# EAGLE library part EHF-125-01-F-D (library SAMTEC_EHF_By_element14_Batch_1)
CONN HEADER, 1.27MM, THRU HOLE, 50WAY
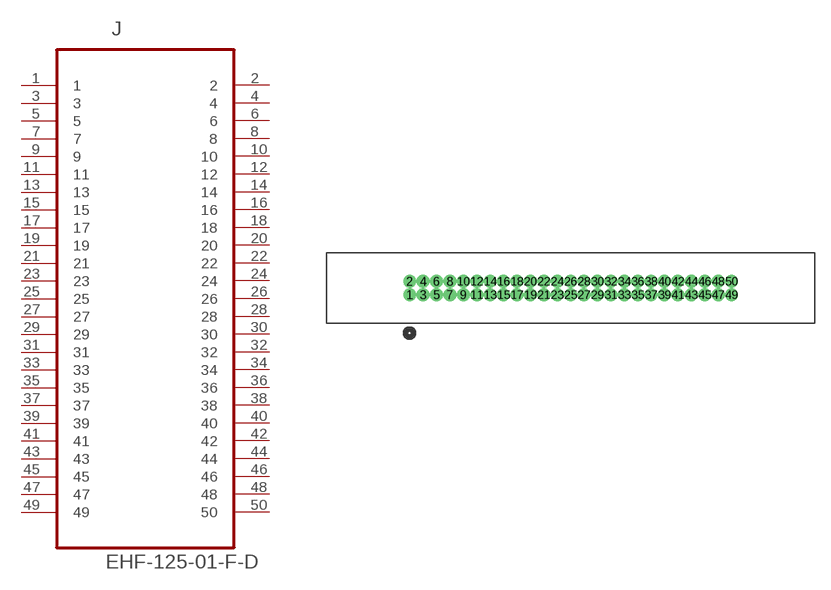
[diagram p10: symbol with the pads of SAMTEC_EHF-125-01-F-D; footprint SAMTEC_EHF-125-01-F-D]

Designator prefix J

## EHF-125-01-F-D (MPN: EHF-125-01-F-D; OC_FARNELL: 1802030; OC_NEWARK: 91P5656; PACKAGE: HEADER, 1.27MM, THRU HOLE, 50WAY; SUPPLIER: SAMTEC)  [SAMTEC_EHF-125-01-F-D]
1  1  pas
2  2  pas
3  3  pas
4  4  pas
5  5  pas
6  6  pas
7  7  pas
8  8  pas
9  9  pas
10  10  pas
11  11  pas
12  12  pas
13  13  pas
14  14  pas
15  15  pas
16  16  pas
17  17  pas
18  18  pas
19  19  pas
20  20  pas
21  21  pas
22  22  pas
23  23  pas
24  24  pas
25  25  pas
26  26  pas
27  27  pas
28  28  pas
29  29  pas
30  30  pas
31  31  pas
32  32  pas
33  33  pas
34  34  pas
35  35  pas
36  36  pas
37  37  pas
38  38  pas
39  39  pas
40  40  pas
41  41  pas
42  42  pas
43  43  pas
44  44  pas
45  45  pas
46  46  pas
47  47  pas
48  48  pas
49  49  pas
50  50  pas

## Footprint SAMTEC_EHF-125-01-F-D (pad centres in mm)
drill 0.711: 1 -30.48,-1.27; 2 -30.48,0; 3 -29.21,-1.27; 4 -29.21,0; 5 -27.94,-1.27; 6 -27.94,0; 7 -26.67,-1.27; 8 -26.67,0; 9 -25.4,-1.27; 10 -25.4,0; 11 -24.13,-1.27; 12 -24.13,0; 13 -22.86,-1.27; 14 -22.86,0; 15 -21.59,-1.27; 16 -21.59,0; 17 -20.32,-1.27; 18 -20.32,0; 19 -19.05,-1.27; 20 -19.05,0; 21 -17.78,-1.27; 22 -17.78,0; 23 -16.51,-1.27; 24 -16.51,0; 25 -15.24,-1.27; 26 -15.24,0; 27 -13.97,-1.27; 28 -13.97,0; 29 -12.7,-1.27; 30 -12.7,0; 31 -11.43,-1.27; 32 -11.43,0; 33 -10.16,-1.27; 34 -10.16,0; 35 -8.89,-1.27; 36 -8.89,0; 37 -7.62,-1.27; 38 -7.62,0; 39 -6.35,-1.27; 40 -6.35,0; 41 -5.08,-1.27; 42 -5.08,0; 43 -3.81,-1.27; 44 -3.81,0; 45 -2.54,-1.27; 46 -2.54,0; 47 -1.27,-1.27; 48 -1.27,0; 49 0,-1.27; 50 0,0